# EAGLE library part SPARKFUN-SENSORS_VCNL4040 (library Lagopus_A_3)
Vishay VCNL4040 Human Presence sensor A presence sensor with a range of 20 cm. VCNL4040 integrates a proximity sensor (PS), ambient light sensor (ALS), and a high power IRED into one small package.
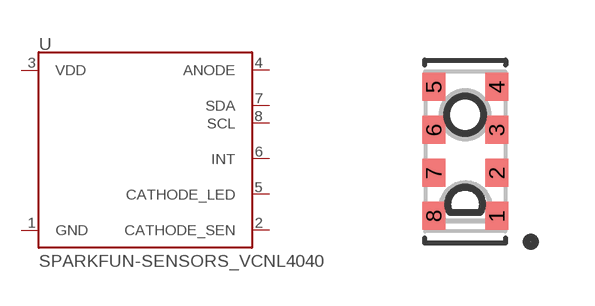
[diagram p2: symbol with the pads of SPARKFUN-SENSORS_SPARKX_VCNL4040; footprint SPARKFUN-SENSORS_SPARKX_VCNL4040]

Designator prefix U

## SPARKFUN-SENSORS_VCNL4040 (PROD_ID: IC-14227)  [SPARKFUN-SENSORS_SPARKX_VCNL4040]
1  GND
2  CATHODE_SEN
3  VDD
4  ANODE
5  CATHODE_LED
6  INT
7  SDA
8  SCL

## Footprint SPARKFUN-SENSORS_SPARKX_VCNL4040 (pad centres in mm)
SMD-8 for VCNL4040 Specifications: Pin count: 8 Pin pitch: 1.075mm Area: 2mm x 4mm Datasheet referenced for footprint <https://www.vishay.com/docs/84274/vcnl4040.pdf>
smd 0.575 x 0.7: 1 0.787,-1.613; 2 0.787,-0.537; 3 0.787,0.537; 4 0.787,1.613; 5 -0.787,1.613; 6 -0.787,0.537; 7 -0.787,-0.537; 8 -0.787,-1.613